# EAGLE library part 51296-3494 (library 51296-3494)
FFC & FPC Connectors 0.5 FPC ZIF 34Ckt Em ZIF 34Ckt EmbsTp Pkg Source: Datasheet <https://componentsearchengine.com/Datasheets/1/51296-3494.pdf>
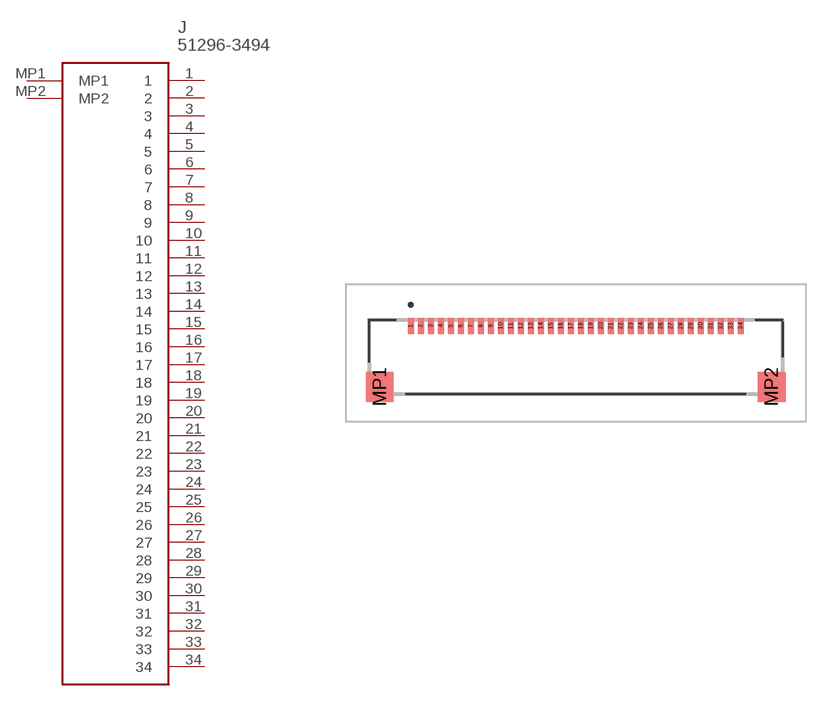
[diagram p0: symbol with the pads of 512963494; footprint 512963494]

Designator prefix J

## 51296-3494 (Arrow_Part_Number: 51296-3494; Description: FFC & FPC Connectors 0.5 FPC ZIF 34Ckt Em ZIF 34Ckt EmbsTp Pkg; Height: 1.5mm; Manufacturer_Name: Molex; Manufacturer_Part_Number: 51296-3494; Mouser_Part_Number: 538-51296-3494; Mouser_Price-Stock: https://www.mouser.co.uk/ProductDetail/Molex/51296-3494?qs=uYjzet2PAM5r5hG5QHZpIA%3D%3D)  [512963494]
1  1
2  2
3  3
4  4
5  5
6  6
7  7
8  8
9  9
10  10
11  11
12  12
13  13
14  14
15  15
16  16
17  17
18  18
19  19
20  20
21  21
22  22
23  23
24  24
25  25
26  26
27  27
28  28
29  29
30  30
31  31
32  32
33  33
34  34
MP1  MP1
MP2  MP2

## Footprint 512963494 (pad centres in mm)
51296-3494-1
smd 0.3 x 0.8: 1 -8.25,1.55; 2 -7.75,1.55; 3 -7.25,1.55; 4 -6.75,1.55; 5 -6.25,1.55; 6 -5.75,1.55; 7 -5.25,1.55; 8 -4.75,1.55; 9 -4.25,1.55; 10 -3.75,1.55; 11 -3.25,1.55; 12 -2.75,1.55; 13 -2.25,1.55; 14 -1.75,1.55; 15 -1.25,1.55; 16 -0.75,1.55; 17 -0.25,1.55; 18 0.25,1.55; 19 0.75,1.55; 20 1.25,1.55; 21 1.75,1.55; 22 2.25,1.55; 23 2.75,1.55; 24 3.25,1.55; 25 3.75,1.55; 26 4.25,1.55; 27 4.75,1.55; 28 5.25,1.55; 29 5.75,1.55; 30 6.25,1.55; 31 6.75,1.55; 32 7.25,1.55; 33 7.75,1.55; 34 8.25,1.55
smd 1.4 x 1.5: MP1 -9.8,-1.5; MP2 9.8,-1.5